# Altium footprint library Macro Pad Library.PcbLib: 24 footprints (part 2 of 2)
Each footprint in its own frame and in the unit in brackets; x right, y up, seen from the top. Pads: shape width x height; smd on the part's side, far side on the other; paste and mask are expansions set on the pad; w line width, h text height; cw(c..) or ccw(c..) is an arc to the next point about the centre after c.
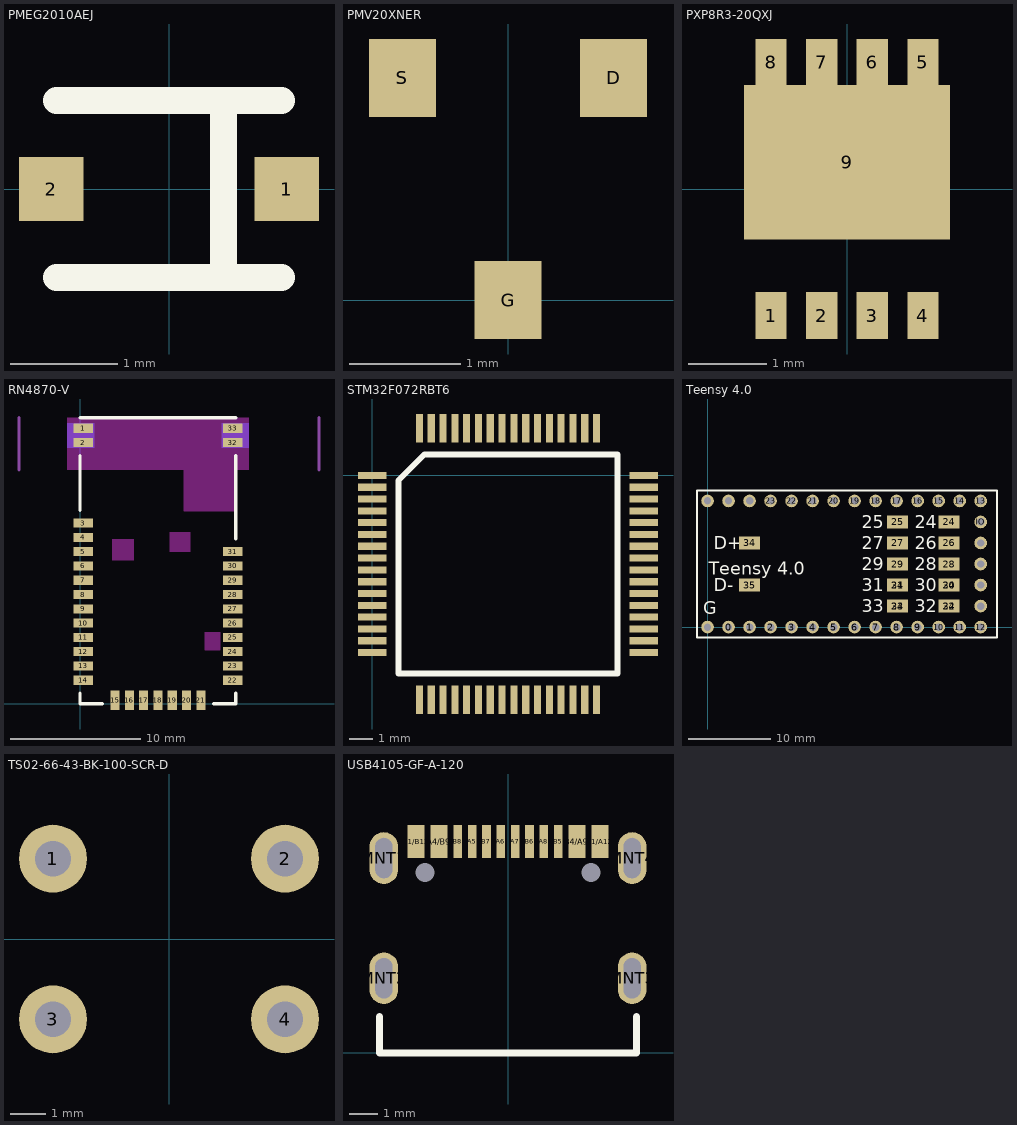
[diagram p1: the footprints below, top view; thin cyan lines are the x and y axes]

## PMEG2010AEJ [mm]
pads (2):
  rect 0.6x0.6 smd: 1(1.1,0) 2(-1.1,0)
Top Overlay:
  lines w0.254: -1.05,-0.825 1.05,-0.825 ; -1.05,0.825 1.05,0.825 ; 0.508,-0.762 0.508,0.762

## PMV20XNER [mm]
pads (3):
  rect 0.6x0.7 smd: D(0.95,2) G(0,0) S(-0.95,2)

## PXP8R3-20QXJ [mm]
pads (9):
  rect 0.4x0.6 smd: 1(-0.975,-1.625) 2(-0.325,-1.625) 3(0.325,-1.625) 4(0.975,-1.625) 5(0.975,1.625) 6(0.325,1.625) 7(-0.325,1.625) 8(-0.975,1.625)
  rect 2.65x1.98 smd paste-2539.97: 9(0,0.343)
Top Paste:
  region: -1.05,0.235 -1.05,-0.465 -0.1,-0.465 -0.1,0.235
  region: 0.1,0.235 0.1,-0.465 1.05,-0.465 1.05,0.235
  region: 0.1,1.135 0.1,0.435 1.05,0.435 1.05,1.135
  region: -1.05,1.135 -1.05,0.435 -0.1,0.435 -0.1,1.135

## RN4870-V [mm]
pads (33):
  rect 1.5x0.7 smd: 1(0.25,21.2) 2(0.25,20.1) 3(0.25,13.9) 4(0.25,12.8) 5(0.25,11.7) 6(0.25,10.6) 7(0.25,9.5) 8(0.25,8.4) 9(0.25,7.3) 10(0.25,6.2) 11(0.25,5.1) 12(0.25,4) 13(0.25,2.9) 14(0.25,1.8) 22(11.75,1.8) 23(11.75,2.9) 24(11.75,4) 25(11.75,5.1) 26(11.75,6.2) 27(11.75,7.3) 28(11.75,8.4) 29(11.75,9.5) 30(11.75,10.6) 31(11.75,11.7) 32(11.75,20.1) 33(11.75,21.2)
  rect 0.7x1.5 smd: 15(2.7,0.25) 16(3.8,0.25) 17(4.9,0.25) 18(6,0.25) 19(7.1,0.25) 20(8.2,0.25) 21(9.3,0.25)
Top Layer keep-out:
  region: 10.8,4.1 10.8,5.5 9.6,5.5 9.6,4.1
  region: 8,14.8 8,18 12,18 12,14.8
Bottom Layer keep-out:
  region: -1,19.7 -1,21.6 1.1,21.6 1.1,19.7
  region: 10.9,19.7 10.9,21.6 13,21.6 13,19.7
Top Overlay:
  lines w0.254: 0,0.8 0,0 1.7,0 ; 0,14.9 0,19.1 ; 0,22 12,22 ; 10.3,0 12,0 12,0.8 ; 12,12.7 12,19.1
Keep-Out Layer:
  region: -1,19.7 1,19.7 1,20.5 -1,20.5 -1,20.8 1,20.8 1,21.6 -1,21.6 -1,22 13,22 13,21.6 11,21.6 11,20.8 13,20.8 13,20.5 11,20.5 11,19.7 13,19.7 13,18 -1,18
  region: 2.477,12.649 2.477,11.049 4.127,11.049 4.127,12.649
  region: 8.5,11.7 8.5,13.2 6.9,13.2 6.9,11.7
Visual Layout:
  lines w0.254: -4.7,18 -4.7,22 ; 18.4,18 18.4,22

## STM32F072RBT6 [mm]
pads (64):
  rect 1.2x0.3 smd: 1(0,0) 2(0,-0.5) 3(0,-1) 4(0,-1.5) 5(0,-2) 6(0,-2.5) 7(0,-3) 8(0,-3.5) 9(0,-4) 10(0,-4.5) 11(0,-5) 12(0,-5.5) 13(0,-6) 14(0,-6.5) 15(0,-7) 16(0,-7.5) 33(11.5,-7.5) 34(11.5,-7) 35(11.5,-6.5) 36(11.5,-6) 37(11.5,-5.5) 38(11.5,-5) 39(11.5,-4.5) 40(11.5,-4) 41(11.5,-3.5) 42(11.5,-3) 43(11.5,-2.5) 44(11.5,-2) 45(11.5,-1.5) 46(11.5,-1) 47(11.5,-0.5) 48(11.5,0)
  rect 0.3x1.2 smd: 17(2,-9.5) 18(2.5,-9.5) 19(3,-9.5) 20(3.5,-9.5) 21(4,-9.5) 22(4.5,-9.5) 23(5,-9.5) 24(5.5,-9.5) 25(6,-9.5) 26(6.5,-9.5) 27(7,-9.5) 28(7.5,-9.5) 29(8,-9.5) 30(8.5,-9.5) 31(9,-9.5) 32(9.5,-9.5) 49(9.5,2) 50(9,2) 51(8.5,2) 52(8,2) 53(7.5,2) 54(7,2) 55(6.5,2) 56(6,2) 57(5.5,2) 58(5,2) 59(4.5,2) 60(4,2) 61(3.5,2) 62(3,2) 63(2.5,2) 64(2,2)
Top Overlay:
  lines w0.254: 1.108,-8.392 1.108,-0.216 2.216,0.892 10.392,0.892 10.392,-8.392 1.108,-8.392

## Teensy 4.0 [mil]
pads (49):
  round 60 hole 35.43: 0(100,0) 1(200,0) 2(300,0) 3(400,0) 3.3V(200,600) 3.3V(1300,200) 4(500,0) 5(600,0) 6(700,0) 7(800,0) 8(900,0) 9(1000,0) 10(1100,0) 11(1200,0) 12(1300,0) 13(1300,600) 14(1200,600) 15(1100,600) 16(1000,600) 17(900,600) 18(800,600) 19(700,600) 20(600,600) 21(500,600) 22(400,600) 23(300,600) GND(0,0) GND(100,600) GND(1300,300) IO(1300,500) PROG(1300,400) VBat(1300,100) Vin(0,600)
  rect 100x60 smd: 24(905,100) 24(905,200) 24(1150,100) 24(1150,200) 24(1150,500) 25(905,500) 26(1150,400) 27(905,400) 28(1150,300) 29(905,300) 30(1150,200) 31(905,200) 32(1150,100) 33(905,100) 34(200,400) 35(200,200)
Top Overlay:
  lines w10: -50,-50 -50,650 1377.56,650 1377.56,-50 -50,-50
  text "27" at 735,370 h60
  text "29" at 735,270 h60
  text "25" at 735,470 h60
  text "31" at 735,170 h60
  text "33" at 735,70 h60
  text "Teensy 4.0" at 5.09,250 h60
  text "30" at 985,170 h60
  text "32" at 985,70 h60
  text "28" at 985,270 h60
  text "26" at 985,370 h60
  text "24" at 985,470 h60
  text "G" at -20,60 h60
  text "D+" at 30,370 h60
  text "D-" at 30,170 h60

## TS02-66-43-BK-100-SCR-D [mm]
pads (4):
  round 1.905 hole 1: 1(-3.25,2.25) 2(3.25,2.25) 3(-3.25,-2.25) 4(3.25,-2.25)

## USB4105-GF-A-120 [mm]
pads (18):
  round 0 hole 0.65 unplated: 32(-2.89,6.28) 33(2.89,6.28)
  rect 0.6x1.15 smd: A1/B12(-3.2,7.355) A4/B9(-2.4,7.355) B1/A12(3.2,7.355) B4/A9(2.4,7.355)
  rect 0.3x1.15 smd: A5(-1.25,7.355) A6(-0.25,7.355) A7(0.25,7.355) A8(1.25,7.355) B5(1.75,7.355) B6(0.75,7.355) B7(-0.75,7.355) B8(-1.75,7.355)
  oval 1x1.8 hole 0.6 slot 1.4 at 90 deg: MNT1(-4.32,6.78) MNT2(-4.32,2.6) MNT3(4.32,2.6) MNT4(4.32,6.78)
Top Overlay:
  lines w0.254: -4.47,1.27 -4.47,0 4.47,0 4.47,1.27